# EAGLE library part DMC56404 (library eagle-book)
Composite Transistor with Built-in Resistors (NPN x 2)
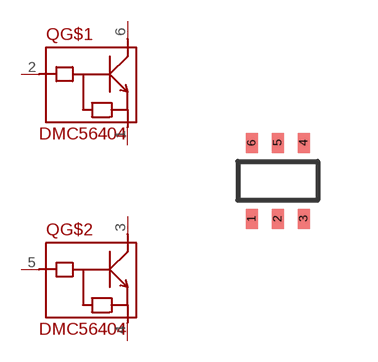
[diagram p23: symbol with the pads of SMINI6-F3-B; footprint SMINI6-F3-B]

Designator prefix Q; gates G$1=NPN G$2=NPN

## DMC56404  [SMINI6-F3-B]
1  G$1:3
2  G$1:2  in
3  G$2:1
4  G$2:3
5  G$2:2  in
6  G$1:1

## Footprint SMINI6-F3-B (pad centres in mm)
6-pin small outline package
smd 0.3 x 0.5: 1 -0.65,-0.95; 2 0,-0.95; 3 0.65,-0.95; 4 0.65,0.95; 5 0,0.95; 6 -0.65,0.95